# Altium schematic symbol library Shielding_Cabinet_Cover.SchLib: 1 symbol
Pins are listed as number, name and electrical type; pins without a type are passive.

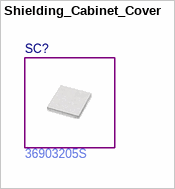
[diagram p0: symbol Shielding_Cabinet_Cover]

## Shielding_Cabinet_Cover
designator SC?  Manufacturer Part Number: 36903205S  (hidden comment: Shielding_Cabinet_Cover)